# Altium schematic symbol library SD_Card.SchLib: 1 symbol
Pins are listed as number, name and electrical type; pins without a type are passive.

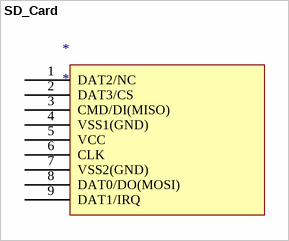
[diagram p0: symbol SD_Card]

## SD_Card
designator *
pins: 1 DAT2/NC, 2 DAT3/CS, 3 CMD/DI(MISO), 4 VSS1(GND), 5 VCC, 6 CLK, 7 VSS2(GND), 8 DAT0/DO(MOSI), 9 DAT1/IRQ